# Altium integrated library ON Semi Schottky Diodes & Schottky Rectifiers.IntLib: 755 symbols (part 8 of 17)
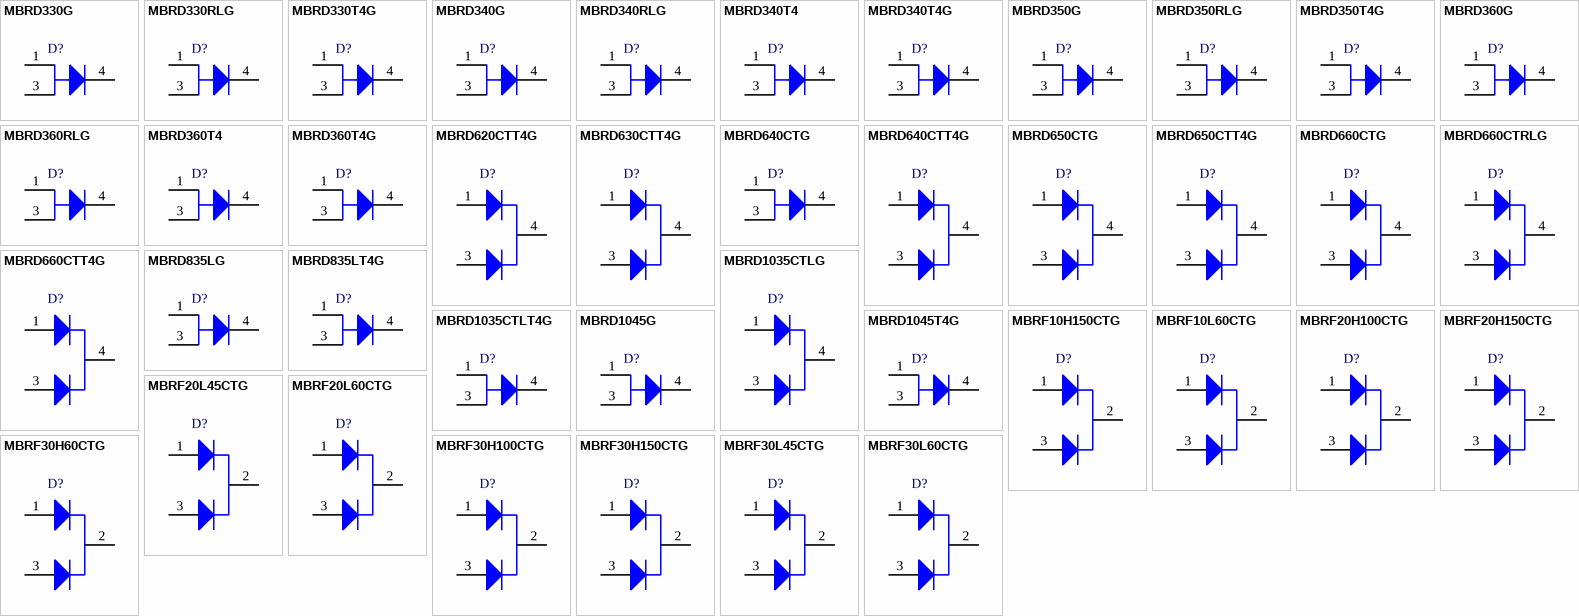
[diagram p26: symbols MBRD330G to MBRF30L60CTG]

## MBRD660CTRLG
designator D?
SWITCHMODE(TM) Power Rectifier, 3-Pin DPAK, Pb-Free, Tape and Reel; Manufacturer: On Semiconductor; PartNumber: MBRD660CTRLG; Configuration: Common Cathode; IFSM Max (A): 75; DatasheetVersion: Rev. 10; PackageVersion: Rev. E, 02/2014; PackageReference: DPAK-3-369C-01; PackageDescription: 3-Pin Flange Mount, Body 6.54 x 6.095 mm, Pitch 2.29 mm; Supplier 1: Digi-Key; Supplier Part Number 1: MBRD660CTRLGOSTR-ND; Supplier 2: Digi-Key; Supplier Part Number 2: MBRD660CTRLGOSCT-ND; Supplier 3: Digi-Key; Supplier Part Number 3: MBRD660CTRLGOSDKR-ND; Supplier 4: Farnell; Supplier Part Number 4: 2317439; Supplier 5: Newark; Supplier Part Number 5: 45J0785; Supplier 6: Mouser; Supplier Part Number 6: 863-MBRD660CTRLG; Packing: Tape and Reel; RoHS: TRUE; Mounting Technology: Surface Mount; ComponentLink1Description: Manufacturer URL; ComponentLink1URL: http://www.onsemi.com/; ComponentLink2Description: Datasheet; ComponentLink2URL: http://www.onsemi.cn/pub_link/Collateral/MBRD620CT-D.PDF; ComponentLink3Description: Package Specification; ComponentLink3URL: http://www.onsemi.cn/pub_link/Collateral/369C.PDF
footprint ONSC-DPAK-3-369C-01_V (DPAK, 3-Leads, Body 6.54x6.095mm, Pitch 2.29mm)
pins: 1 A1, 3 A2, 4 K

## MBRD660CTT4G
designator D?
SWITCHMODE(TM) Power Rectifier, 3-Pin DPAK, Pb-Free, Tape and Reel; Manufacturer: On Semiconductor; PartNumber: MBRD660CTT4G; Configuration: Common Cathode; IFSM Max (A): 75; DatasheetVersion: Rev. 10; PackageVersion: Rev. E, 02/2014; PackageReference: DPAK-3-369C-01; PackageDescription: 3-Pin Flange Mount, Body 6.54 x 6.095 mm, Pitch 2.29 mm; Supplier 1: Digi-Key; Supplier Part Number 1: MBRD660CTT4GOSTR-ND; Supplier 2: Digi-Key; Supplier Part Number 2: MBRD660CTT4GOSCT-ND; Supplier 3: Digi-Key; Supplier Part Number 3: MBRD660CTT4GOSDKR-ND; Supplier 4: Farnell; Supplier Part Number 4: 2317647; Supplier 5: Farnell; Supplier Part Number 5: 2317413; Supplier 6: Newark; Supplier Part Number 6: 85W2811; Supplier 7: Newark; Supplier Part Number 7: 88H4671; Supplier 8: Mouser; Supplier Part Number 8: 863-MBRD660CTT4G; Packing: Tape and Reel; RoHS: TRUE; Mounting Technology: Surface Mount; ComponentLink1Description: Manufacturer URL; ComponentLink1URL: http://www.onsemi.com/; ComponentLink2Description: Datasheet; ComponentLink2URL: http://www.onsemi.cn/pub_link/Collateral/MBRD620CT-D.PDF; ComponentLink3Description: Package Specification; ComponentLink3URL: http://www.onsemi.cn/pub_link/Collateral/369C.PDF
footprint ONSC-DPAK-3-369C-01_V (DPAK, 3-Leads, Body 6.54x6.095mm, Pitch 2.29mm)
pins: 1 A1, 3 A2, 4 K

## MBRD835LG
designator D?
SWITCHMODE(TM) Power Rectifier, 3-Pin DPAK, Pb-Free, Tube; Manufacturer: On Semiconductor; PartNumber: MBRD835LG; Configuration: Single; IFSM Max (A): 75; DatasheetVersion: Rev. 11; PackageVersion: Rev. E, 02/2014; PackageReference: DPAK-3-369C-01; PackageDescription: 3-Pin Flange Mount, Body 6.54 x 6.095 mm, Pitch 2.29 mm; Supplier 1: Digi-Key; Supplier Part Number 1: MBRD835LGOS-ND; Supplier 2: Farnell; Supplier Part Number 2: 9556249; Supplier 3: Newark; Supplier Part Number 3: 98H0591; Supplier 4: Mouser; Supplier Part Number 4: 863-MBRD835LG; Packing: Tube; RoHS: TRUE; Mounting Technology: Surface Mount; ComponentLink1Description: Manufacturer URL; ComponentLink1URL: http://www.onsemi.com/; ComponentLink2Description: Datasheet; ComponentLink2URL: http://www.onsemi.cn/pub_link/Collateral/MBRD835L-D.PDF; ComponentLink3Description: Package Specification; ComponentLink3URL: http://www.onsemi.cn/pub_link/Collateral/369C.PDF
footprint ONSC-DPAK-3-369C-01_V (DPAK, 3-Leads, Body 6.54x6.095mm, Pitch 2.29mm)
pins: 1 A, 3 A, 4 K

## MBRD835LT4G
designator D?
SWITCHMODE(TM) Power Rectifier, 3-Pin DPAK, Pb-Free, Tape and Reel; Manufacturer: On Semiconductor; PartNumber: MBRD835LT4G; Configuration: Single; IFSM Max (A): 75; DatasheetVersion: Rev. 11; PackageVersion: Rev. E, 02/2014; PackageReference: DPAK-3-369C-01; PackageDescription: 3-Pin Flange Mount, Body 6.54 x 6.095 mm, Pitch 2.29 mm; Supplier 1: Digi-Key; Supplier Part Number 1: MBRD835LT4GOSTR-ND; Supplier 2: Digi-Key; Supplier Part Number 2: MBRD835LT4GOSCT-ND; Supplier 3: Digi-Key; Supplier Part Number 3: MBRD835LT4GOSDKR-ND; Supplier 4: Farnell; Supplier Part Number 4: 1611349RL; Supplier 5: Farnell; Supplier Part Number 5: 1611349; Supplier 6: Farnell; Supplier Part Number 6: 2317646; Supplier 7: Newark; Supplier Part Number 7: 67R1309; Supplier 8: Newark; Supplier Part Number 8: 88H4672; Supplier 9: Mouser; Supplier Part Number 9: 863-MBRD835LT4G; Packing: Tape and Reel; RoHS: TRUE; Mounting Technology: Surface Mount; ComponentLink1Description: Manufacturer URL; ComponentLink1URL: http://www.onsemi.com/; ComponentLink2Description: Datasheet; ComponentLink2URL: http://www.onsemi.cn/pub_link/Collateral/MBRD835L-D.PDF; ComponentLink3Description: Package Specification; ComponentLink3URL: http://www.onsemi.cn/pub_link/Collateral/369C.PDF
footprint ONSC-DPAK-3-369C-01_V (DPAK, 3-Leads, Body 6.54x6.095mm, Pitch 2.29mm)
pins: 1 A, 3 A, 4 K

## MBRD1035CTLG
designator D?
SWITCHMODE(TM) Schottky Power Rectifier, 3-Pin DPAK, Pb-Free, Tube; Manufacturer: On Semiconductor; PartNumber: MBRD1035CTLG; Configuration: Common Cathode; IFSM Max (A): 50; DatasheetVersion: Rev. 9; PackageVersion: Rev. E, 02/2014; PackageReference: DPAK-3-369C-01; PackageDescription: 3-Pin Flange Mount, Body 6.54 x 6.095 mm, Pitch 2.29 mm; Supplier 1: Digi-Key; Supplier Part Number 1: MBRD1035CTLGOS-ND; Supplier 2: Farnell; Supplier Part Number 2: 9556974; Supplier 3: Newark; Supplier Part Number 3: 26K3681; Supplier 4: Mouser; Supplier Part Number 4: 863-MBRD1035CTLG; Packing: Tube; RoHS: TRUE; Mounting Technology: Surface Mount; ComponentLink1Description: Manufacturer URL; ComponentLink1URL: http://www.onsemi.com/; ComponentLink2Description: Datasheet; ComponentLink2URL: http://www.onsemi.cn/pub_link/Collateral/MBRD1035CTL-D.PDF; ComponentLink3Description: Package Specification; ComponentLink3URL: http://www.onsemi.cn/pub_link/Collateral/369C.PDF
footprint ONSC-DPAK-3-369C-01_V (DPAK, 3-Leads, Body 6.54x6.095mm, Pitch 2.29mm)
pins: 1 A1, 3 A2, 4 K

## MBRD1035CTLT4G
designator D?
SWITCHMODE(TM) Schottky Power Rectifier, 3-Pin DPAK, Pb-Free, Tape and Reel; Manufacturer: On Semiconductor; PartNumber: MBRD1035CTLT4G; Configuration: Common Cathode; IFSM Max (A): 50; DatasheetVersion: Rev. 9; PackageVersion: Rev. E, 02/2014; PackageReference: DPAK-3-369C-01; PackageDescription: 3-Pin Flange Mount, Body 6.54 x 6.095 mm, Pitch 2.29 mm; Supplier 1: Digi-Key; Supplier Part Number 1: MBRD1035CTLT4GOSTR-ND; Supplier 2: Digi-Key; Supplier Part Number 2: MBRD1035CTLT4GOSCT-ND; Supplier 3: Digi-Key; Supplier Part Number 3: MBRD1035CTLT4GOSDKR-ND; Supplier 4: Farnell; Supplier Part Number 4: 2317430; Supplier 5: Newark; Supplier Part Number 5: 88H4668; Supplier 6: Mouser; Supplier Part Number 6: 863-MBRD1035CTLT4G; Packing: Tape and Reel; RoHS: TRUE; Mounting Technology: Surface Mount; ComponentLink1Description: Manufacturer URL; ComponentLink1URL: http://www.onsemi.com/; ComponentLink2Description: Datasheet; ComponentLink2URL: http://www.onsemi.cn/pub_link/Collateral/MBRD1035CTL-D.PDF; ComponentLink3Description: Package Specification; ComponentLink3URL: http://www.onsemi.cn/pub_link/Collateral/369C.PDF
footprint ONSC-DPAK-3-369C-01_V (DPAK, 3-Leads, Body 6.54x6.095mm, Pitch 2.29mm)
pins: 1 A, 3 A, 4 K

## MBRD1045G
designator D?
SWITCHMODE(TM) Schottky Power Rectifier, 3-Pin DPAK, Pb-Free, Tube; Manufacturer: On Semiconductor; PartNumber: MBRD1045G; Note: 0; Configuration: Single; IFSM Max (A): 70; DatasheetVersion: Rev. 8; PackageVersion: Rev. E, 02/2014; PackageReference: DPAK-3-369C-01; PackageDescription: 3-Pin Flange Mount, Body 6.54 x 6.095 mm, Pitch 2.29 mm; Packing: Tube; RoHS: TRUE; Mounting Technology: Surface Mount; ComponentLink1Description: Manufacturer URL; ComponentLink1URL: http://www.onsemi.com/; ComponentLink2Description: Datasheet; ComponentLink2URL: http://www.onsemi.cn/pub_link/Collateral/MBRB1045-D.PDF; ComponentLink3Description: Package Specification; ComponentLink3URL: http://www.onsemi.cn/pub_link/Collateral/369C.PDF
footprint ONSC-DPAK-3-369C-01_V (DPAK, 3-Leads, Body 6.54x6.095mm, Pitch 2.29mm)
pins: 1 A, 3 A, 4 K

## MBRD1045T4G
designator D?
SWITCHMODE(TM) Schottky Power Rectifier, 3-Pin DPAK, Pb-Free, Tape and Reel; Manufacturer: On Semiconductor; PartNumber: MBRD1045T4G; Configuration: Single; IFSM Max (A): 70; DatasheetVersion: Rev. 8; PackageVersion: Rev. E, 02/2014; PackageReference: DPAK-3-369C-01; PackageDescription: 3-Pin Flange Mount, Body 6.54 x 6.095 mm, Pitch 2.29 mm; Supplier 1: Digi-Key; Supplier Part Number 1: MBRD1045T4GOSTR-ND; Supplier 2: Digi-Key; Supplier Part Number 2: MBRD1045T4GOSCT-ND; Supplier 3: Digi-Key; Supplier Part Number 3: MBRD1045T4GOSDKR-ND; Supplier 4: Farnell; Supplier Part Number 4: 1705524; Supplier 5: Farnell; Supplier Part Number 5: 2371523; Supplier 6: Newark; Supplier Part Number 6: 10N9415; Supplier 7: Newark; Supplier Part Number 7: 83K8564; Supplier 8: Mouser; Supplier Part Number 8: 863-MBRD1045T4G; Packing: Tape and Reel; RoHS: TRUE; Mounting Technology: Surface Mount; ComponentLink1Description: Manufacturer URL; ComponentLink1URL: http://www.onsemi.com/; ComponentLink2Description: Datasheet; ComponentLink2URL: http://www.onsemi.cn/pub_link/Collateral/MBRB1045-D.PDF; ComponentLink3Description: Package Specification; ComponentLink3URL: http://www.onsemi.cn/pub_link/Collateral/369C.PDF
footprint ONSC-DPAK-3-369C-01_V (DPAK, 3-Leads, Body 6.54x6.095mm, Pitch 2.29mm)
pins: 1 A, 3 A, 4 K

## MBRF10H150CTG
designator D?
SWITCHMODE(TM) Power Rectifier, 150 V, 10 A, 3-Pin TO-220FP, Pb-Free, Tube; Manufacturer: On Semiconductor; PartNumber: MBRF10H150CTG; Configuration: Common Cathode; IFSM Max (A): 150; DatasheetVersion: Rev. 1; PackageVersion: Rev. K, 02/2009; PackageReference: TO-220FP-3-221D-03; PackageDescription: 3-Pin Flange Mount, Vertical Straight Lead, Body 10.295 x 4.7 mm, Pitch 2.54 mm; Supplier 1: Digi-Key; Supplier Part Number 1: MBRF10H150CTGOS-ND; Supplier 2: Newark; Supplier Part Number 2: 75M4782; Supplier 3: Mouser; Supplier Part Number 3: 863-MBRF10H150CTG; Packing: Tube; RoHS: TRUE; Mounting Technology: Through Hole; ComponentLink1Description: Manufacturer URL; ComponentLink1URL: http://www.onsemi.com/; ComponentLink2Description: Datasheet; ComponentLink2URL: http://www.onsemi.cn/pub_link/Collateral/MBRF10H150C-D.PDF; ComponentLink3Description: Package Specification; ComponentLink3URL: http://www.onsemi.cn/pub_link/Collateral/221D-03.PDF
footprint ONSC-TO-220FP-3-221D-03 (FM, 3-Leads, Body 10.63x4.9mm, Pitch 2.54mm)
pins: 1 A1, 2 K, 3 A2

## MBRF10L60CTG
designator D?
SWITCHMODE(TM) Power Rectifier, 60 V, 10 A, 3-Pin TO-220FP, Pb-Free, Tube; Manufacturer: On Semiconductor; PartNumber: MBRF10L60CTG; Configuration: Common Cathode; IFSM Max (A): 200; DatasheetVersion: Rev. 0; PackageVersion: Rev. K, 02/2009; PackageReference: TO-220FP-3-221D-03; PackageDescription: 3-Pin Flange Mount, Vertical Straight Lead, Body 10.295 x 4.7 mm, Pitch 2.54 mm; Supplier 1: Digi-Key; Supplier Part Number 1: MBRF10L60CTG-ND; Supplier 2: Mouser; Supplier Part Number 2: 863-MBRF10L60CTG; Packing: Tube; RoHS: TRUE; Mounting Technology: Through Hole; ComponentLink1Description: Manufacturer URL; ComponentLink1URL: http://www.onsemi.com/; ComponentLink2Description: Datasheet; ComponentLink2URL: http://www.onsemi.cn/pub_link/Collateral/MBR10L60CT-D.PDF; ComponentLink3Description: Package Specification; ComponentLink3URL: http://www.onsemi.cn/pub_link/Collateral/221D-03.PDF
footprint ONSC-TO-220FP-3-221D-03 (FM, 3-Leads, Body 10.63x4.9mm, Pitch 2.54mm)
pins: 1 A1, 2 K, 3 A2

## MBRF20H100CTG
designator D?
SWITCHMODE(TM) Power Rectifier, 100 V, 20 A, 3-Pin TO-220, Pb-Free, Tube; Manufacturer: On Semiconductor; PartNumber: MBRF20H100CTG; Configuration: Common Cathode; IFSM Max (A): 250; DatasheetVersion: Rev. 11; PackageVersion: Rev. K, 02/2009; PackageReference: TO-220FP-3-221D-03; PackageDescription: 3-Pin Flange Mount, Vertical Straight Lead, Body 10.295 x 4.7 mm, Pitch 2.54 mm; Supplier 1: Digi-Key; Supplier Part Number 1: MBRF20H100CTG-ND; Supplier 2: Mouser; Supplier Part Number 2: 863-MBRF20H100CTG; Packing: Tube; RoHS: TRUE; Mounting Technology: Through Hole; ComponentLink1Description: Manufacturer URL; ComponentLink1URL: http://www.onsemi.com/; ComponentLink2Description: Datasheet; ComponentLink2URL: http://www.onsemi.cn/pub_link/Collateral/MBR20H100CT-D.PDF; ComponentLink3Description: Package Specification; ComponentLink3URL: http://www.onsemi.cn/pub_link/Collateral/221D-03.PDF
footprint ONSC-TO-220FP-3-221D-03 (FM, 3-Leads, Body 10.63x4.9mm, Pitch 2.54mm)
pins: 1 A1, 2 K, 3 A2

## MBRF20H150CTG
designator D?
SWITCHMODE(TM) Power Rectifier, 150 V, 20 A, 3-Pin TO-220FP, Pb-Free, Tube; Manufacturer: On Semiconductor; PartNumber: MBRF20H150CTG; Configuration: Common Cathode; IFSM Max (A): 180; DatasheetVersion: Rev. 2; PackageVersion: Rev. K, 02/2009; PackageReference: TO-220FP-3-221D-03; PackageDescription: 3-Pin Flange Mount, Vertical Straight Lead, Body 10.295 x 4.7 mm, Pitch 2.54 mm; Supplier 1: Digi-Key; Supplier Part Number 1: MBRF20H150CTGOS-ND; Supplier 2: Newark; Supplier Part Number 2: 75M4783; Supplier 3: Mouser; Supplier Part Number 3: 863-MBRF20H150CTG; Packing: Tube; RoHS: TRUE; Mounting Technology: Through Hole; ComponentLink1Description: Manufacturer URL; ComponentLink1URL: http://www.onsemi.com/; ComponentLink2Description: Datasheet; ComponentLink2URL: http://www.onsemi.cn/pub_link/Collateral/MBRF20H150C-D.PDF; ComponentLink3Description: Package Specification; ComponentLink3URL: http://www.onsemi.cn/pub_link/Collateral/221D-03.PDF
footprint ONSC-TO-220FP-3-221D-03 (FM, 3-Leads, Body 10.63x4.9mm, Pitch 2.54mm)
pins: 1 A1, 2 K, 3 A2

## MBRF20L45CTG
designator D?
SWITCHMODE(TM) Power Rectifier, 45 V, 20 A, 3-Pin TO-220, Pb-Free, Tube; Manufacturer: On Semiconductor; PartNumber: MBRF20L45CTG; Configuration: Common Cathode; IFSM Max (A): 180; DatasheetVersion: Rev. 2; PackageVersion: Rev. K, 02/2009; PackageReference: TO-220FP-3-221D-03; PackageDescription: 3-Pin Flange Mount, Vertical Straight Lead, Body 10.295 x 4.7 mm, Pitch 2.54 mm; Supplier 1: Digi-Key; Supplier Part Number 1: MBRF20L45CTG-ND; Supplier 2: Mouser; Supplier Part Number 2: 863-MBRF20L45CTG; Packing: Tube; RoHS: TRUE; Mounting Technology: Through Hole; ComponentLink1Description: Manufacturer URL; ComponentLink1URL: http://www.onsemi.com/; ComponentLink2Description: Datasheet; ComponentLink2URL: http://www.onsemi.cn/pub_link/Collateral/MBR20L45CT-D.PDF; ComponentLink3Description: Package Specification; ComponentLink3URL: http://www.onsemi.cn/pub_link/Collateral/221D-03.PDF
footprint ONSC-TO-220FP-3-221D-03 (FM, 3-Leads, Body 10.63x4.9mm, Pitch 2.54mm)
pins: 1 A1, 2 K, 3 A2

## MBRF20L60CTG
designator D?
SWITCHMODE(TM) Power Rectifier, 60 V, 20 A, 3-Pin TO-220FP, Pb-Free, Tube; Manufacturer: On Semiconductor; PartNumber: MBRF20L60CTG; Configuration: Common Cathode; IFSM Max (A): 240; DatasheetVersion: Rev. 1; PackageVersion: Rev. K, 02/2009; PackageReference: TO-220FP-3-221D-03; PackageDescription: 3-Pin Flange Mount, Vertical Straight Lead, Body 10.295 x 4.7 mm, Pitch 2.54 mm; Supplier 1: Digi-Key; Supplier Part Number 1: MBRF20L60CTG-ND; Supplier 2: Mouser; Supplier Part Number 2: 863-MBRF20L60CTG; Packing: Tube; RoHS: TRUE; Mounting Technology: Through Hole; ComponentLink1Description: Manufacturer URL; ComponentLink1URL: http://www.onsemi.com/; ComponentLink2Description: Datasheet; ComponentLink2URL: http://www.onsemi.cn/pub_link/Collateral/MBR20L60CT-D.PDF; ComponentLink3Description: Package Specification; ComponentLink3URL: http://www.onsemi.cn/pub_link/Collateral/221D-03.PDF
footprint ONSC-TO-220FP-3-221D-03 (FM, 3-Leads, Body 10.63x4.9mm, Pitch 2.54mm)
pins: 1 A1, 2 K, 3 A2

## MBRF30H60CTG
designator D?
SWITCHMODE(TM) Power Rectifier, 60 V, 30 A, 3-Pin TO-220FP, Pb-Free, Tube; Manufacturer: On Semiconductor; PartNumber: MBRF30H60CTG; Configuration: Common Cathode; IFSM Max (A): 260; DatasheetVersion: Rev. 10; PackageVersion: Rev. K, 02/2009; PackageReference: TO-220FP-3-221D-03; PackageDescription: 3-Pin Flange Mount, Vertical Straight Lead, Body 10.295 x 4.7 mm, Pitch 2.54 mm; Supplier 1: Digi-Key; Supplier Part Number 1: MBRF30H60CTGOS-ND; Supplier 2: Newark; Supplier Part Number 2: 34M7322; Supplier 3: Mouser; Supplier Part Number 3: 863-MBRF30H60CTG; Packing: Tube; RoHS: TRUE; Mounting Technology: Through Hole; ComponentLink1Description: Manufacturer URL; ComponentLink1URL: http://www.onsemi.com/; ComponentLink2Description: Datasheet; ComponentLink2URL: http://www.onsemi.cn/pub_link/Collateral/MBRB30H60CT-D.PDF; ComponentLink3Description: Package Specification; ComponentLink3URL: http://www.onsemi.cn/pub_link/Collateral/221D-03.PDF
footprint ONSC-TO-220FP-3-221D-03 (FM, 3-Leads, Body 10.63x4.9mm, Pitch 2.54mm)
pins: 1 A1, 2 K, 3 A2

## MBRF30H100CTG
designator D?
SWITCHMODE(TM) Power Rectifier, 100 V, 30 A, 3-Pin TO-220FP, Pb-Free, Tube; Manufacturer: On Semiconductor; PartNumber: MBRF30H100CTG; Configuration: Common Cathode; IFSM Max (A): 250; DatasheetVersion: Rev. 4; PackageVersion: Rev. K, 02/2009; PackageReference: TO-220FP-3-221D-03; PackageDescription: 3-Pin Flange Mount, Vertical Straight Lead, Body 10.295 x 4.7 mm, Pitch 2.54 mm; Supplier 1: Digi-Key; Supplier Part Number 1: MBRF30H100CTGOS-ND; Supplier 2: Newark; Supplier Part Number 2: 01P0130; Supplier 3: Mouser; Supplier Part Number 3: 863-MBRF30H100CTG; Packing: Tube; RoHS: TRUE; Mounting Technology: Through Hole; ComponentLink1Description: Manufacturer URL; ComponentLink1URL: http://www.onsemi.com/; ComponentLink2Description: Datasheet; ComponentLink2URL: http://www.onsemi.cn/pub_link/Collateral/MBR30H100CT-D.PDF; ComponentLink3Description: Package Specification; ComponentLink3URL: http://www.onsemi.cn/pub_link/Collateral/221D-03.PDF
footprint ONSC-TO-220FP-3-221D-03 (FM, 3-Leads, Body 10.63x4.9mm, Pitch 2.54mm)
pins: 1 A1, 2 K, 3 A2

## MBRF30H150CTG
designator D?
SWITCHMODE(TM) Power Rectifier, 150 V, 30 A, 3-Pin TO-220FP, Pb-Free, Tube; Manufacturer: On Semiconductor; PartNumber: MBRF30H150CTG; Configuration: Common Cathode; IFSM Max (A): 200; DatasheetVersion: Rev. 1; PackageVersion: Rev. K, 02/2009; PackageReference: TO-220FP-3-221D-03; PackageDescription: 3-Pin Flange Mount, Vertical Straight Lead, Body 10.295 x 4.7 mm, Pitch 2.54 mm; Supplier 1: Digi-Key; Supplier Part Number 1: MBRF30H150CTG-ND; Supplier 2: Newark; Supplier Part Number 2: 75M4784; Supplier 3: Mouser; Supplier Part Number 3: 863-MBRF30H150CTG; Packing: Tube; RoHS: TRUE; Mounting Technology: Through Hole; ComponentLink1Description: Manufacturer URL; ComponentLink1URL: http://www.onsemi.com/; ComponentLink2Description: Datasheet; ComponentLink2URL: http://www.onsemi.cn/pub_link/Collateral/MBRF30H150C-D.PDF; ComponentLink3Description: Package Specification; ComponentLink3URL: http://www.onsemi.cn/pub_link/Collateral/221D-03.PDF
footprint ONSC-TO-220FP-3-221D-03 (FM, 3-Leads, Body 10.63x4.9mm, Pitch 2.54mm)
pins: 1 A1, 2 K, 3 A2

## MBRF30L45CTG
designator D?
SWITCHMODE(TM) Power Rectifier, 45 V, 30 A, 3-Pin TO-220, Pb-Free, Tube; Manufacturer: On Semiconductor; PartNumber: MBRF30L45CTG; Configuration: Common Cathode; IFSM Max (A): 190; DatasheetVersion: Rev. 2; PackageVersion: Rev. K, 02/2009; PackageReference: TO-220FP-3-221D-03; PackageDescription: 3-Pin Flange Mount, Vertical Straight Lead, Body 10.295 x 4.7 mm, Pitch 2.54 mm; Supplier 1: Digi-Key; Supplier Part Number 1: MBRF30L45CTG-ND; Supplier 2: Mouser; Supplier Part Number 2: 863-MBRF30L45CTG; Packing: Tube; RoHS: TRUE; Mounting Technology: Through Hole; ComponentLink1Description: Manufacturer URL; ComponentLink1URL: http://www.onsemi.com/; ComponentLink2Description: Datasheet; ComponentLink2URL: http://www.onsemi.cn/pub_link/Collateral/MBR30L45CT-D.PDF; ComponentLink3Description: Package Specification; ComponentLink3URL: http://www.onsemi.cn/pub_link/Collateral/221D-03.PDF
footprint ONSC-TO-220FP-3-221D-03 (FM, 3-Leads, Body 10.63x4.9mm, Pitch 2.54mm)
pins: 1 A1, 2 K, 3 A2

## MBRF30L60CTG
designator D?
SWITCHMODE(TM) Power Rectifier, 60 V, 30 A, 3-Pin TO-220FP, Pb-Free, Tube; Manufacturer: On Semiconductor; PartNumber: MBRF30L60CTG; Configuration: Common Cathode; IFSM Max (A): 240; DatasheetVersion: Rev. 0; PackageVersion: Rev. K, 02/2009; PackageReference: TO-220FP-3-221D-03; PackageDescription: 3-Pin Flange Mount, Vertical Straight Lead, Body 10.295 x 4.7 mm, Pitch 2.54 mm; Supplier 1: Digi-Key; Supplier Part Number 1: MBRF30L60CTG-ND; Supplier 2: Newark; Supplier Part Number 2: 46P8071; Supplier 3: Mouser; Supplier Part Number 3: 863-MBRF30L60CTG; Packing: Tube; RoHS: TRUE; Mounting Technology: Through Hole; ComponentLink1Description: Manufacturer URL; ComponentLink1URL: http://www.onsemi.com/; ComponentLink2Description: Datasheet; ComponentLink2URL: http://www.onsemi.cn/pub_link/Collateral/MBR30L60CT-D.PDF; ComponentLink3Description: Package Specification; ComponentLink3URL: http://www.onsemi.cn/pub_link/Collateral/221D-03.PDF
footprint ONSC-TO-220FP-3-221D-03 (FM, 3-Leads, Body 10.63x4.9mm, Pitch 2.54mm)
pins: 1 A1, 2 K, 3 A2

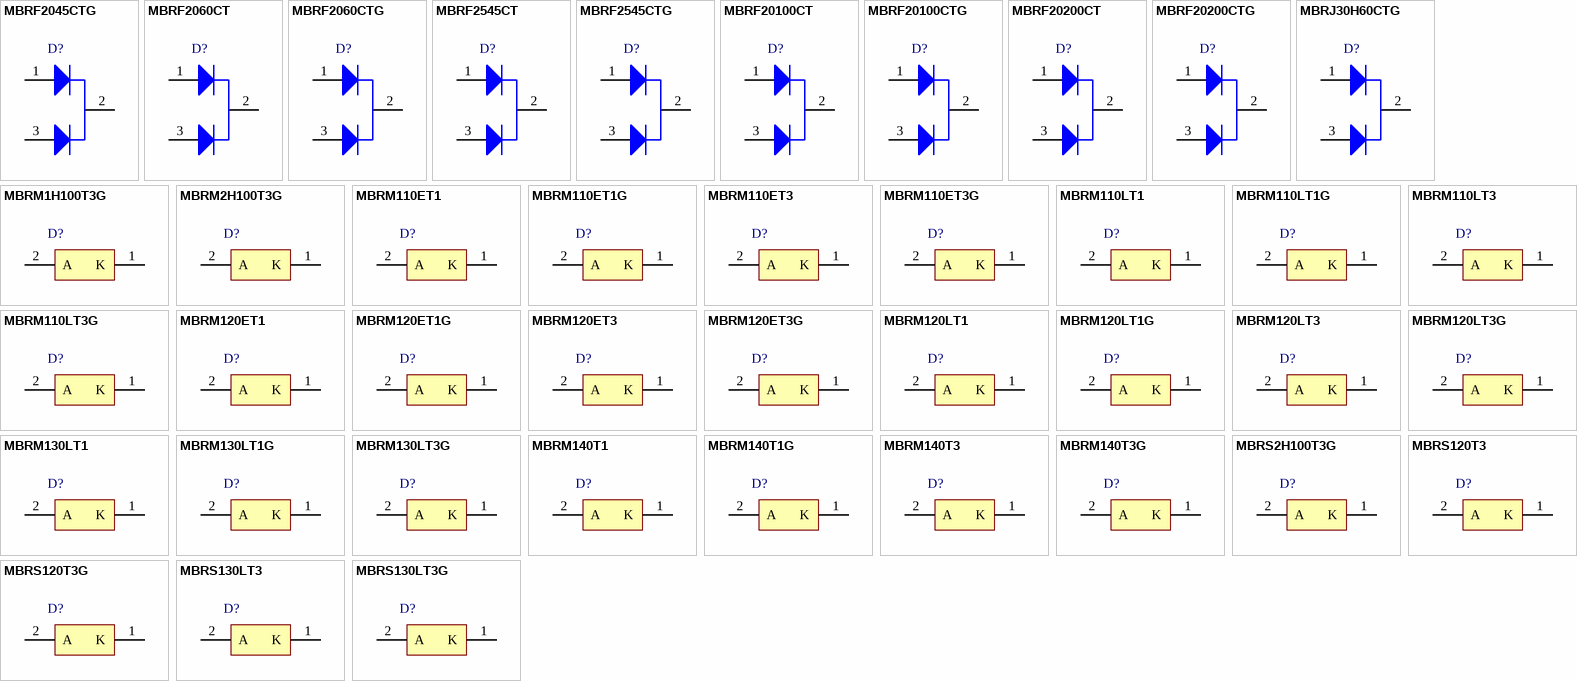
[diagram p9: symbols MBRF2045CTG to MBRS130LT3G]

## MBRF2045CTG
designator D?
SWITCHMODE(TM) Power Rectifier, 3-Pin TO-220FP, Pb-Free, Tube; Manufacturer: On Semiconductor; PartNumber: MBRF2045CTG; IFSM Max (A): 150; DatasheetVersion: Rev. 10; PackageVersion: Rev. K, 02/2009; PackageReference: TO-220FP-3-221D-03; PackageDescription: 3-Pin Flange Mount, Vertical Straight Lead, Body 10.295 x 4.7 mm, Pitch 2.54 mm; Supplier 1: Digi-Key; Supplier Part Number 1: MBRF2045CTGOS-ND; Supplier 2: Newark; Supplier Part Number 2: 01P4990; Supplier 3: Mouser; Supplier Part Number 3: 863-MBRF2045CTG; Packing: Tube; RoHS: TRUE; Mounting Technology: Through Hole; ComponentLink1Description: Manufacturer URL; ComponentLink1URL: http://www.onsemi.com/; ComponentLink2Description: Datasheet; ComponentLink2URL: http://www.onsemi.cn/pub_link/Collateral/MBR2045CT-D.PDF; ComponentLink3Description: Package Specification; ComponentLink3URL: http://www.onsemi.cn/pub_link/Collateral/221D-03.PDF
footprint ONSC-TO-220FP-3-221D-03 (FM, 3-Leads, Body 10.63x4.9mm, Pitch 2.54mm)
pins: 1 A1, 2 K, 3 A2

## MBRF2060CT
designator D?
SWITCHMODE(TM) Schottky Power Rectifier, 3-Pin TO-220FP, Tube; Manufacturer: On Semiconductor; PartNumber: MBRF2060CT; Configuration: Common Cathode; IFSM Max (A): 150; DatasheetVersion: Rev. 8; PackageVersion: Rev. K, 02/2009; PackageReference: TO-220FP-3-221D-03; PackageDescription: 3-Pin Flange Mount, Vertical Straight Lead, Body 10.295 x 4.7 mm, Pitch 2.54 mm; Supplier 1: Digi-Key; Supplier Part Number 1: MBRF2060CT-ND; Packing: Tube; RoHS: FALSE; Mounting Technology: Through Hole; ComponentLink1Description: Manufacturer URL; ComponentLink1URL: http://www.onsemi.com/; ComponentLink2Description: Datasheet; ComponentLink2URL: http://www.onsemi.cn/pub_link/Collateral/MBRF2060CT-D.PDF; ComponentLink3Description: Package Specification; ComponentLink3URL: http://www.onsemi.cn/pub_link/Collateral/221D-03.PDF
footprint ONSC-TO-220FP-3-221D-03 (FM, 3-Leads, Body 10.63x4.9mm, Pitch 2.54mm)
pins: 1 A1, 2 K, 3 A2

## MBRF2060CTG
designator D?
SWITCHMODE(TM) Schottky Power Rectifier, 3-Pin TO-220FP, Pb-Free, Tube; Manufacturer: On Semiconductor; PartNumber: MBRF2060CTG; Configuration: Common Cathode; IFSM Max (A): 150; DatasheetVersion: Rev. 8; PackageVersion: Rev. K, 02/2009; PackageReference: TO-220FP-3-221D-03; PackageDescription: 3-Pin Flange Mount, Vertical Straight Lead, Body 10.295 x 4.7 mm, Pitch 2.54 mm; Supplier 1: Digi-Key; Supplier Part Number 1: MBRF2060CTG-ND; Supplier 2: Newark; Supplier Part Number 2: 45J0786; Supplier 3: Mouser; Supplier Part Number 3: 863-MBRF2060CTG; Packing: Tube; RoHS: TRUE; Mounting Technology: Through Hole; ComponentLink1Description: Manufacturer URL; ComponentLink1URL: http://www.onsemi.com/; ComponentLink2Description: Datasheet; ComponentLink2URL: http://www.onsemi.cn/pub_link/Collateral/MBRF2060CT-D.PDF; ComponentLink3Description: Package Specification; ComponentLink3URL: http://www.onsemi.cn/pub_link/Collateral/221D-03.PDF
footprint ONSC-TO-220FP-3-221D-03 (FM, 3-Leads, Body 10.63x4.9mm, Pitch 2.54mm)
pins: 1 A1, 2 K, 3 A2

## MBRF2545CT
designator D?
SWITCHMODE(TM) Schottky Power Rectifier, 3-Pin TO-220FP, Tube; Manufacturer: On Semiconductor; PartNumber: MBRF2545CT; Configuration: Common Cathode; IFSM Max (A): 150; DatasheetVersion: Rev. 8; PackageVersion: Rev. K, 02/2009; PackageReference: TO-220FP-3-221D-03; PackageDescription: 3-Pin Flange Mount, Vertical Straight Lead, Body 10.295 x 4.7 mm, Pitch 2.54 mm; Supplier 1: Digi-Key; Supplier Part Number 1: MBRF2545CTOS-ND; Packing: Tube; RoHS: FALSE; Mounting Technology: Through Hole; ComponentLink1Description: Manufacturer URL; ComponentLink1URL: http://www.onsemi.com/; ComponentLink2Description: Datasheet; ComponentLink2URL: http://www.onsemi.cn/pub_link/Collateral/MBRF2545CT-D.PDF; ComponentLink3Description: Package Specification; ComponentLink3URL: http://www.onsemi.cn/pub_link/Collateral/221D-03.PDF
footprint ONSC-TO-220FP-3-221D-03 (FM, 3-Leads, Body 10.63x4.9mm, Pitch 2.54mm)
pins: 1 A1, 2 K, 3 A2

## MBRF2545CTG
designator D?
SWITCHMODE(TM) Schottky Power Rectifier, 3-Pin TO-220FP, Pb-Free, Tube; Manufacturer: On Semiconductor; PartNumber: MBRF2545CTG; Configuration: Common Cathode; IFSM Max (A): 150; DatasheetVersion: Rev. 8; PackageVersion: Rev. K, 02/2009; PackageReference: TO-220FP-3-221D-03; PackageDescription: 3-Pin Flange Mount, Vertical Straight Lead, Body 10.295 x 4.7 mm, Pitch 2.54 mm; Supplier 1: Digi-Key; Supplier Part Number 1: MBRF2545CTGOS-ND; Supplier 2: Newark; Supplier Part Number 2: 88H4673; Supplier 3: Mouser; Supplier Part Number 3: 863-MBRF2545CTG; Packing: Tube; RoHS: TRUE; Mounting Technology: Through Hole; ComponentLink1Description: Manufacturer URL; ComponentLink1URL: http://www.onsemi.com/; ComponentLink2Description: Datasheet; ComponentLink2URL: http://www.onsemi.cn/pub_link/Collateral/MBRF2545CT-D.PDF; ComponentLink3Description: Package Specification; ComponentLink3URL: http://www.onsemi.cn/pub_link/Collateral/221D-03.PDF
footprint ONSC-TO-220FP-3-221D-03 (FM, 3-Leads, Body 10.63x4.9mm, Pitch 2.54mm)
pins: 1 A1, 2 K, 3 A2

## MBRF20100CT
designator D?
SWITCHMODE(TM) Schottky Power Rectifier, 3-Pin TO-220FP, Tube; Manufacturer: On Semiconductor; PartNumber: MBRF20100CT; Configuration: Common Cathode; IFSM Max (A): 150; DatasheetVersion: Rev. 9; PackageVersion: Rev. K, 02/2009; PackageReference: TO-220FP-3-221D-03; PackageDescription: 3-Pin Flange Mount, Vertical Straight Lead, Body 10.295 x 4.7 mm, Pitch 2.54 mm; Supplier 1: Digi-Key; Supplier Part Number 1: MBRF20100CTOS-ND; Packing: Tube; RoHS: FALSE; Mounting Technology: Through Hole; ComponentLink1Description: Manufacturer URL; ComponentLink1URL: http://www.onsemi.com/; ComponentLink2Description: Datasheet; ComponentLink2URL: http://www.onsemi.cn/pub_link/Collateral/MBRF20100CT-D.PDF; ComponentLink3Description: Package Specification; ComponentLink3URL: http://www.onsemi.cn/pub_link/Collateral/221D-03.PDF
footprint ONSC-TO-220FP-3-221D-03 (FM, 3-Leads, Body 10.63x4.9mm, Pitch 2.54mm)
pins: 1 A1, 2 K, 3 A2

## MBRF20100CTG
designator D?
SWITCHMODE(TM) Schottky Power Rectifier, 3-Pin TO-220FP, Pb-Free, Tube; Manufacturer: On Semiconductor; PartNumber: MBRF20100CTG; Configuration: Common Cathode; IFSM Max (A): 150; DatasheetVersion: Rev. 9; PackageVersion: Rev. K, 02/2009; PackageReference: TO-220FP-3-221D-03; PackageDescription: 3-Pin Flange Mount, Vertical Straight Lead, Body 10.295 x 4.7 mm, Pitch 2.54 mm; Supplier 1: Digi-Key; Supplier Part Number 1: MBRF20100CTGOS-ND; Supplier 2: Newark; Supplier Part Number 2: 26K3686; Supplier 3: Mouser; Supplier Part Number 3: 863-MBRF20100CTG; Packing: Tube; RoHS: TRUE; Mounting Technology: Through Hole; ComponentLink1Description: Manufacturer URL; ComponentLink1URL: http://www.onsemi.com/; ComponentLink2Description: Datasheet; ComponentLink2URL: http://www.onsemi.cn/pub_link/Collateral/MBRF20100CT-D.PDF; ComponentLink3Description: Package Specification; ComponentLink3URL: http://www.onsemi.cn/pub_link/Collateral/221D-03.PDF
footprint ONSC-TO-220FP-3-221D-03 (FM, 3-Leads, Body 10.63x4.9mm, Pitch 2.54mm)
pins: 1 A1, 2 K, 3 A2

## MBRF20200CT
designator D?
SWITCHMODE(TM) Schottky Power Rectifier, 3-Pin TO-220FP, Tube; Manufacturer: On Semiconductor; PartNumber: MBRF20200CT; Configuration: Common Cathode; IFSM Max (A): 150; DatasheetVersion: Rev. 7; PackageVersion: Rev. K, 02/2009; PackageReference: TO-220FP-3-221D-03; PackageDescription: 3-Pin Flange Mount, Vertical Straight Lead, Body 10.295 x 4.7 mm, Pitch 2.54 mm; Supplier 1: Digi-Key; Supplier Part Number 1: MBRF20200CTOS-ND; Packing: Tube; RoHS: FALSE; Mounting Technology: Through Hole; ComponentLink1Description: Manufacturer URL; ComponentLink1URL: http://www.onsemi.com/; ComponentLink2Description: Datasheet; ComponentLink2URL: http://www.onsemi.cn/pub_link/Collateral/MBRF20200CT-D.PDF; ComponentLink3Description: Package Specification; ComponentLink3URL: http://www.onsemi.cn/pub_link/Collateral/221D-03.PDF
footprint ONSC-TO-220FP-3-221D-03 (FM, 3-Leads, Body 10.63x4.9mm, Pitch 2.54mm)
pins: 1 A1, 2 K, 3 A2

## MBRF20200CTG
designator D?
SWITCHMODE(TM) Schottky Power Rectifier, 3-Pin TO-220FP, Pb-Free, Tube; Manufacturer: On Semiconductor; PartNumber: MBRF20200CTG; Configuration: Common Cathode; IFSM Max (A): 150; DatasheetVersion: Rev. 7; PackageVersion: Rev. K, 02/2009; PackageReference: TO-220FP-3-221D-03; PackageDescription: 3-Pin Flange Mount, Vertical Straight Lead, Body 10.295 x 4.7 mm, Pitch 2.54 mm; Supplier 1: Digi-Key; Supplier Part Number 1: MBRF20200CTGOS-ND; Supplier 2: Farnell; Supplier Part Number 2: 1354336; Supplier 3: Newark; Supplier Part Number 3: 26K3687; Supplier 4: Mouser; Supplier Part Number 4: 863-MBRF20200CTG; Packing: Tube; RoHS: TRUE; Mounting Technology: Through Hole; ComponentLink1Description: Manufacturer URL; ComponentLink1URL: http://www.onsemi.com/; ComponentLink2Description: Datasheet; ComponentLink2URL: http://www.onsemi.cn/pub_link/Collateral/MBRF20200CT-D.PDF; ComponentLink3Description: Package Specification; ComponentLink3URL: http://www.onsemi.cn/pub_link/Collateral/221D-03.PDF
footprint ONSC-TO-220FP-3-221D-03 (FM, 3-Leads, Body 10.63x4.9mm, Pitch 2.54mm)
pins: 1 A1, 2 K, 3 A2

## MBRJ30H60CTG
designator D?
SWITCHMODE(TM) Power Rectifier, 60 V, 30 A, 3-Pin TO-220FP, Pb-Free, Tube; Manufacturer: On Semiconductor; PartNumber: MBRJ30H60CTG; Note: 0; Configuration: Common Cathode; IFSM Max (A): 260; DatasheetVersion: Rev. 10; PackageVersion: Rev. K, 02/2009; PackageReference: TO-220FP-3-221D-03; PackageDescription: 3-Pin Flange Mount, Vertical Straight Lead, Body 10.295 x 4.7 mm, Pitch 2.54 mm; Packing: Tube; RoHS: TRUE; Mounting Technology: Through Hole; ComponentLink1Description: Manufacturer URL; ComponentLink1URL: http://www.onsemi.com/; ComponentLink2Description: Datasheet; ComponentLink2URL: http://www.onsemi.cn/pub_link/Collateral/MBRB30H60CT-D.PDF; ComponentLink3Description: Package Specification; ComponentLink3URL: http://www.onsemi.cn/pub_link/Collateral/221D-03.PDF
footprint ONSC-TO-220FP-3-221D-03 (FM, 3-Leads, Body 10.63x4.9mm, Pitch 2.54mm)
pins: 1 A1, 2 K, 3 A2

## MBRM1H100T3G
designator D?
Schottky Power Rectifier, 2-Pin Powermite, Pb-Free, Tape and Reel; Manufacturer: On Semiconductor; PartNumber: MBRM1H100T3G; Configuration: Single; IFSM Max (A): 50; DatasheetVersion: Rev. 0; PackageVersion: Rev. F, 05/2013; PackageReference: POWERMITE-2-457-04; PackageDescription: 2-Pin POWERMITE, Body 1.965 x 1.9 mm; Supplier 1: Digi-Key; Supplier Part Number 1: MBRM1H100T3G-ND; Supplier 2: Newark; Supplier Part Number 2: 15R4282; Supplier 3: Mouser; Supplier Part Number 3: 863-MBRM1H100T3G; Packing: Tape and Reel; RoHS: TRUE; Mounting Technology: Surface Mount; ComponentLink1Description: Manufacturer URL; ComponentLink1URL: http://www.onsemi.com/; ComponentLink2Description: Datasheet; ComponentLink2URL: http://www.onsemi.cn/pub_link/Collateral/MBRM1H100-D.PDF; ComponentLink3Description: Package Specification; ComponentLink3URL: http://www.onsemi.com/pub_link/Collateral/457-04.PDF
footprint ONSC-POWERMITE-2-457-04_D_V (POWERMITE, 2-Leads, Body 1.965x1.9mm)
pins: 1 K, 2 A

## MBRM2H100T3G
designator D?
Schottky Power Rectifier, 2-Pin Powermite, Pb-Free, Tape and Reel; Manufacturer: On Semiconductor; PartNumber: MBRM2H100T3G; Configuration: Single; IFSM Max (A): 50; DatasheetVersion: Rev. 1; PackageVersion: Rev. F, 05/2013; PackageReference: POWERMITE-2-457-04; PackageDescription: 2-Pin POWERMITE, Body 1.965 x 1.9 mm; Supplier 1: Digi-Key; Supplier Part Number 1: MBRM2H100T3G-ND; Supplier 2: Newark; Supplier Part Number 2: 15R4283; Supplier 3: Mouser; Supplier Part Number 3: 863-MBRM2H100T3G; Packing: Tape and Reel; RoHS: TRUE; Mounting Technology: Surface Mount; ComponentLink1Description: Manufacturer URL; ComponentLink1URL: http://www.onsemi.com/; ComponentLink2Description: Datasheet; ComponentLink2URL: http://www.onsemi.cn/pub_link/Collateral/MBRM2H100-D.PDF; ComponentLink3Description: Package Specification; ComponentLink3URL: http://www.onsemi.com/pub_link/Collateral/457-04.PDF
footprint ONSC-POWERMITE-2-457-04_D_V (POWERMITE, 2-Leads, Body 1.965x1.9mm)
pins: 1 K, 2 A

## MBRM110ET1
designator D?
Schottky Power Rectifier, 2-Pin Powermite, Tape and Reel; Manufacturer: On Semiconductor; PartNumber: MBRM110ET1; Configuration: Single; IFSM Max (A): 50; DatasheetVersion: Rev. 3; PackageVersion: Rev. F, 05/2013; PackageReference: POWERMITE-2-457-04; PackageDescription: 2-Pin POWERMITE, Body 1.965 x 1.9 mm; Supplier 1: Digi-Key; Supplier Part Number 1: MBRM110ET1OSTR-ND; Supplier 2: Digi-Key; Supplier Part Number 2: MBRM110ET1OSCT-ND; Supplier 3: Digi-Key; Supplier Part Number 3: MBRM110ET1OSDKR-ND; Packing: Tape and Reel; RoHS: FALSE; Mounting Technology: Surface Mount; ComponentLink1Description: Manufacturer URL; ComponentLink1URL: http://www.onsemi.com/; ComponentLink2Description: Datasheet; ComponentLink2URL: http://www.onsemi.cn/pub_link/Collateral/MBRM110E-D.PDF; ComponentLink3Description: Package Specification; ComponentLink3URL: http://www.onsemi.com/pub_link/Collateral/457-04.PDF
footprint ONSC-POWERMITE-2-457-04_D_V (POWERMITE, 2-Leads, Body 1.965x1.9mm)
pins: 1 K, 2 A

## MBRM110ET1G
designator D?
Schottky Power Rectifier, 2-Pin Powermite, Pb-Free, Tape and Reel; Manufacturer: On Semiconductor; PartNumber: MBRM110ET1G; Configuration: Single; IFSM Max (A): 50; DatasheetVersion: Rev. 3; PackageVersion: Rev. F, 05/2013; PackageReference: POWERMITE-2-457-04; PackageDescription: 2-Pin POWERMITE, Body 1.965 x 1.9 mm; Supplier 1: Digi-Key; Supplier Part Number 1: MBRM110ET1GOSTR-ND; Supplier 2: Digi-Key; Supplier Part Number 2: MBRM110ET1GOSCT-ND; Supplier 3: Digi-Key; Supplier Part Number 3: MBRM110ET1GOSDKR-ND; Supplier 4: Farnell; Supplier Part Number 4: 2369429; Supplier 5: Newark; Supplier Part Number 5: 10N9417; Supplier 6: Mouser; Supplier Part Number 6: 863-MBRM110ET1G; Packing: Tape and Reel; RoHS: TRUE; Mounting Technology: Surface Mount; ComponentLink1Description: Manufacturer URL; ComponentLink1URL: http://www.onsemi.com/; ComponentLink2Description: Datasheet; ComponentLink2URL: http://www.onsemi.cn/pub_link/Collateral/MBRM110E-D.PDF; ComponentLink3Description: Package Specification; ComponentLink3URL: http://www.onsemi.com/pub_link/Collateral/457-04.PDF
footprint ONSC-POWERMITE-2-457-04_D_V (POWERMITE, 2-Leads, Body 1.965x1.9mm)
pins: 1 K, 2 A

## MBRM110ET3
designator D?
Schottky Power Rectifier, 2-Pin Powermite, Tape and Reel; Manufacturer: On Semiconductor; PartNumber: MBRM110ET3; Configuration: Single; IFSM Max (A): 50; DatasheetVersion: Rev. 3; PackageVersion: Rev. F, 05/2013; PackageReference: POWERMITE-2-457-04; PackageDescription: 2-Pin POWERMITE, Body 1.965 x 1.9 mm; Supplier 1: Digi-Key; Supplier Part Number 1: MBRM110ET3-ND; Packing: Tape and Reel; RoHS: FALSE; Mounting Technology: Surface Mount; ComponentLink1Description: Manufacturer URL; ComponentLink1URL: http://www.onsemi.com/; ComponentLink2Description: Datasheet; ComponentLink2URL: http://www.onsemi.cn/pub_link/Collateral/MBRM110E-D.PDF; ComponentLink3Description: Package Specification; ComponentLink3URL: http://www.onsemi.com/pub_link/Collateral/457-04.PDF
footprint ONSC-POWERMITE-2-457-04_D_V (POWERMITE, 2-Leads, Body 1.965x1.9mm)
pins: 1 K, 2 A

## MBRM110ET3G
designator D?
Schottky Power Rectifier, 2-Pin Powermite, Pb-Free, Tape and Reel; Manufacturer: On Semiconductor; PartNumber: MBRM110ET3G; Configuration: Single; IFSM Max (A): 50; DatasheetVersion: Rev. 3; PackageVersion: Rev. F, 05/2013; PackageReference: POWERMITE-2-457-04; PackageDescription: 2-Pin POWERMITE, Body 1.965 x 1.9 mm; Supplier 1: Digi-Key; Supplier Part Number 1: MBRM110ET3G-ND; Supplier 2: Newark; Supplier Part Number 2: 85W2286; Supplier 3: Mouser; Supplier Part Number 3: 863-MBRM110ET3G; Packing: Tape and Reel; RoHS: TRUE; Mounting Technology: Surface Mount; ComponentLink1Description: Manufacturer URL; ComponentLink1URL: http://www.onsemi.com/; ComponentLink2Description: Datasheet; ComponentLink2URL: http://www.onsemi.cn/pub_link/Collateral/MBRM110E-D.PDF; ComponentLink3Description: Package Specification; ComponentLink3URL: http://www.onsemi.com/pub_link/Collateral/457-04.PDF
footprint ONSC-POWERMITE-2-457-04_D_V (POWERMITE, 2-Leads, Body 1.965x1.9mm)
pins: 1 K, 2 A

## MBRM110LT1
designator D?
Schottky Power Rectifier, 2-Pin Powermite, Tape and Reel; Manufacturer: On Semiconductor; PartNumber: MBRM110LT1; Configuration: Single; IFSM Max (A): 50; DatasheetVersion: Rev. 2; PackageVersion: Rev. F, 05/2013; PackageReference: POWERMITE-2-457-04; PackageDescription: 2-Pin POWERMITE, Body 1.965 x 1.9 mm; Supplier 1: Digi-Key; Supplier Part Number 1: MBRM110LT1OSTR-ND; Supplier 2: Digi-Key; Supplier Part Number 2: MBRM110LT1OSCT-ND; Supplier 3: Digi-Key; Supplier Part Number 3: MBRM110LT1OSDKR-ND; Packing: Tape and Reel; RoHS: FALSE; Mounting Technology: Surface Mount; ComponentLink1Description: Manufacturer URL; ComponentLink1URL: http://www.onsemi.com/; ComponentLink2Description: Datasheet; ComponentLink2URL: http://www.onsemi.cn/pub_link/Collateral/MBRM110L-D.PDF; ComponentLink3Description: Package Specification; ComponentLink3URL: http://www.onsemi.com/pub_link/Collateral/457-04.PDF
footprint ONSC-POWERMITE-2-457-04_D_V (POWERMITE, 2-Leads, Body 1.965x1.9mm)
pins: 1 K, 2 A

## MBRM110LT1G
designator D?
Schottky Power Rectifier, 2-Pin Powermite, Pb-Free, Tape and Reel; Manufacturer: On Semiconductor; PartNumber: MBRM110LT1G; Configuration: Single; IFSM Max (A): 50; DatasheetVersion: Rev. 2; PackageVersion: Rev. F, 05/2013; PackageReference: POWERMITE-2-457-04; PackageDescription: 2-Pin POWERMITE, Body 1.965 x 1.9 mm; Supplier 1: Digi-Key; Supplier Part Number 1: MBRM110LT1GOSTR-ND; Supplier 2: Digi-Key; Supplier Part Number 2: MBRM110LT1GOSCT-ND; Supplier 3: Digi-Key; Supplier Part Number 3: MBRM110LT1GOSDKR-ND; Supplier 4: Farnell; Supplier Part Number 4: 1651127; Supplier 5: Farnell; Supplier Part Number 5: 1651127RL; Supplier 6: Newark; Supplier Part Number 6: 26K3688; Supplier 7: Mouser; Supplier Part Number 7: 863-MBRM110LT1G; Packing: Tape and Reel; RoHS: TRUE; Mounting Technology: Surface Mount; ComponentLink1Description: Manufacturer URL; ComponentLink1URL: http://www.onsemi.com/; ComponentLink2Description: Datasheet; ComponentLink2URL: http://www.onsemi.cn/pub_link/Collateral/MBRM110L-D.PDF; ComponentLink3Description: Package Specification; ComponentLink3URL: http://www.onsemi.com/pub_link/Collateral/457-04.PDF
footprint ONSC-POWERMITE-2-457-04_D_V (POWERMITE, 2-Leads, Body 1.965x1.9mm)
pins: 1 K, 2 A

## MBRM110LT3
designator D?
Schottky Power Rectifier, 2-Pin Powermite, Tape and Reel; Manufacturer: On Semiconductor; PartNumber: MBRM110LT3; Configuration: Single; IFSM Max (A): 50; DatasheetVersion: Rev. 2; PackageVersion: Rev. F, 05/2013; PackageReference: POWERMITE-2-457-04; PackageDescription: 2-Pin POWERMITE, Body 1.965 x 1.9 mm; Supplier 1: Digi-Key; Supplier Part Number 1: MBRM110LT3-ND; Packing: Tape and Reel; RoHS: FALSE; Mounting Technology: Surface Mount; ComponentLink1Description: Manufacturer URL; ComponentLink1URL: http://www.onsemi.com/; ComponentLink2Description: Datasheet; ComponentLink2URL: http://www.onsemi.cn/pub_link/Collateral/MBRM110L-D.PDF; ComponentLink3Description: Package Specification; ComponentLink3URL: http://www.onsemi.com/pub_link/Collateral/457-04.PDF
footprint ONSC-POWERMITE-2-457-04_D_V (POWERMITE, 2-Leads, Body 1.965x1.9mm)
pins: 1 K, 2 A

## MBRM110LT3G
designator D?
Schottky Power Rectifier, 2-Pin Powermite, Pb-Free, Tape and Reel; Manufacturer: On Semiconductor; PartNumber: MBRM110LT3G; Configuration: Single; IFSM Max (A): 50; DatasheetVersion: Rev. 2; PackageVersion: Rev. F, 05/2013; PackageReference: POWERMITE-2-457-04; PackageDescription: 2-Pin POWERMITE, Body 1.965 x 1.9 mm; Supplier 1: Digi-Key; Supplier Part Number 1: MBRM110LT3GOSTR-ND; Supplier 2: Digi-Key; Supplier Part Number 2: MBRM110LT3GOSCT-ND; Supplier 3: Digi-Key; Supplier Part Number 3: MBRM110LT3GOSDKR-ND; Supplier 4: Farnell; Supplier Part Number 4: 1459062; Supplier 5: Farnell; Supplier Part Number 5: 1459062RL; Supplier 6: Newark; Supplier Part Number 6: 41K9981; Supplier 7: Mouser; Supplier Part Number 7: 863-MBRM110LT3G; Packing: Tape and Reel; RoHS: TRUE; Mounting Technology: Surface Mount; ComponentLink1Description: Manufacturer URL; ComponentLink1URL: http://www.onsemi.com/; ComponentLink2Description: Datasheet; ComponentLink2URL: http://www.onsemi.cn/pub_link/Collateral/MBRM110L-D.PDF; ComponentLink3Description: Package Specification; ComponentLink3URL: http://www.onsemi.com/pub_link/Collateral/457-04.PDF
footprint ONSC-POWERMITE-2-457-04_D_V (POWERMITE, 2-Leads, Body 1.965x1.9mm)
pins: 1 K, 2 A

## MBRM120ET1
designator D?
Schottky Power Rectifier, 2-Pin Powermite, Tape and Reel; Manufacturer: On Semiconductor; PartNumber: MBRM120ET1; Configuration: Single; IFSM Max (A): 50; DatasheetVersion: Rev. 3; PackageVersion: Rev. F, 05/2013; PackageReference: POWERMITE-2-457-04; PackageDescription: 2-Pin POWERMITE, Body 1.965 x 1.9 mm; Supplier 1: Digi-Key; Supplier Part Number 1: MBRM120ET1-ND; Packing: Tape and Reel; RoHS: FALSE; Mounting Technology: Surface Mount; ComponentLink1Description: Manufacturer URL; ComponentLink1URL: http://www.onsemi.com/; ComponentLink2Description: Datasheet; ComponentLink2URL: http://www.onsemi.cn/pub_link/Collateral/MBRM120E-D.PDF; ComponentLink3Description: Package Specification; ComponentLink3URL: http://www.onsemi.com/pub_link/Collateral/457-04.PDF
footprint ONSC-POWERMITE-2-457-04_D_V (POWERMITE, 2-Leads, Body 1.965x1.9mm)
pins: 1 K, 2 A

## MBRM120ET1G
designator D?
Schottky Power Rectifier, 2-Pin Powermite, Pb-Free, Tape and Reel; Manufacturer: On Semiconductor; PartNumber: MBRM120ET1G; Configuration: Single; IFSM Max (A): 50; DatasheetVersion: Rev. 3; PackageVersion: Rev. F, 05/2013; PackageReference: POWERMITE-2-457-04; PackageDescription: 2-Pin POWERMITE, Body 1.965 x 1.9 mm; Supplier 1: Digi-Key; Supplier Part Number 1: MBRM120ET1GOSTR-ND; Supplier 2: Digi-Key; Supplier Part Number 2: MBRM120ET1GOSCT-ND; Supplier 3: Digi-Key; Supplier Part Number 3: MBRM120ET1GOSDKR-ND; Supplier 4: Farnell; Supplier Part Number 4: 2317435; Supplier 5: Farnell; Supplier Part Number 5: 1900103; Supplier 6: Newark; Supplier Part Number 6: 10N9418; Supplier 7: Newark; Supplier Part Number 7: 98H0592; Supplier 8: Mouser; Supplier Part Number 8: 863-MBRM120ET1G; Packing: Tape and Reel; RoHS: TRUE; Mounting Technology: Surface Mount; ComponentLink1Description: Manufacturer URL; ComponentLink1URL: http://www.onsemi.com/; ComponentLink2Description: Datasheet; ComponentLink2URL: http://www.onsemi.cn/pub_link/Collateral/MBRM120E-D.PDF; ComponentLink3Description: Package Specification; ComponentLink3URL: http://www.onsemi.com/pub_link/Collateral/457-04.PDF
footprint ONSC-POWERMITE-2-457-04_D_V (POWERMITE, 2-Leads, Body 1.965x1.9mm)
pins: 1 K, 2 A

## MBRM120ET3
designator D?
Schottky Power Rectifier, 2-Pin Powermite, Tape and Reel; Manufacturer: On Semiconductor; PartNumber: MBRM120ET3; Configuration: Single; IFSM Max (A): 50; DatasheetVersion: Rev. 3; PackageVersion: Rev. F, 05/2013; PackageReference: POWERMITE-2-457-04; PackageDescription: 2-Pin POWERMITE, Body 1.965 x 1.9 mm; Supplier 1: Digi-Key; Supplier Part Number 1: MBRM120ET3OSTR-ND; Supplier 2: Digi-Key; Supplier Part Number 2: MBRM120ET3OSCT-ND; Supplier 3: Digi-Key; Supplier Part Number 3: MBRM120ET3OSDKR-ND; Packing: Tape and Reel; RoHS: FALSE; Mounting Technology: Surface Mount; ComponentLink1Description: Manufacturer URL; ComponentLink1URL: http://www.onsemi.com/; ComponentLink2Description: Datasheet; ComponentLink2URL: http://www.onsemi.cn/pub_link/Collateral/MBRM120E-D.PDF; ComponentLink3Description: Package Specification; ComponentLink3URL: http://www.onsemi.com/pub_link/Collateral/457-04.PDF
footprint ONSC-POWERMITE-2-457-04_D_V (POWERMITE, 2-Leads, Body 1.965x1.9mm)
pins: 1 K, 2 A

## MBRM120ET3G
designator D?
Schottky Power Rectifier, 2-Pin Powermite, Pb-Free, Tape and Reel; Manufacturer: On Semiconductor; PartNumber: MBRM120ET3G; Configuration: Single; IFSM Max (A): 50; DatasheetVersion: Rev. 3; PackageVersion: Rev. F, 05/2013; PackageReference: POWERMITE-2-457-04; PackageDescription: 2-Pin POWERMITE, Body 1.965 x 1.9 mm; Supplier 1: Digi-Key; Supplier Part Number 1: MBRM120ET3GOSTR-ND; Supplier 2: Digi-Key; Supplier Part Number 2: MBRM120ET3GOSCT-ND; Supplier 3: Digi-Key; Supplier Part Number 3: MBRM120ET3GOSDKR-ND; Supplier 4: Farnell; Supplier Part Number 4: 1459063RL; Supplier 5: Farnell; Supplier Part Number 5: 1459063; Supplier 6: Newark; Supplier Part Number 6: 45J0788; Supplier 7: Mouser; Supplier Part Number 7: 863-MBRM120ET3G; Packing: Tape and Reel; RoHS: TRUE; Mounting Technology: Surface Mount; ComponentLink1Description: Manufacturer URL; ComponentLink1URL: http://www.onsemi.com/; ComponentLink2Description: Datasheet; ComponentLink2URL: http://www.onsemi.cn/pub_link/Collateral/MBRM120E-D.PDF; ComponentLink3Description: Package Specification; ComponentLink3URL: http://www.onsemi.com/pub_link/Collateral/457-04.PDF
footprint ONSC-POWERMITE-2-457-04_D_V (POWERMITE, 2-Leads, Body 1.965x1.9mm)
pins: 1 K, 2 A

## MBRM120LT1
designator D?
Schottky Power Rectifier, 2-Pin Powermite, Tape and Reel; Manufacturer: On Semiconductor; PartNumber: MBRM120LT1; Configuration: Single; IFSM Max (A): 50; DatasheetVersion: Rev. 7; PackageVersion: Rev. F, 05/2013; PackageReference: POWERMITE-2-457-04; PackageDescription: 2-Pin POWERMITE, Body 1.965 x 1.9 mm; Supplier 1: Digi-Key; Supplier Part Number 1: MBRM120LT1OSCT-ND; Packing: Tape and Reel; RoHS: FALSE; Mounting Technology: Surface Mount; ComponentLink1Description: Manufacturer URL; ComponentLink1URL: http://www.onsemi.com/; ComponentLink2Description: Datasheet; ComponentLink2URL: http://www.onsemi.cn/pub_link/Collateral/MBRM120L-D.PDF; ComponentLink3Description: Package Specification; ComponentLink3URL: http://www.onsemi.com/pub_link/Collateral/457-04.PDF
footprint ONSC-POWERMITE-2-457-04_D_V (POWERMITE, 2-Leads, Body 1.965x1.9mm)
pins: 1 K, 2 A

## MBRM120LT1G
designator D?
Schottky Power Rectifier, 2-Pin Powermite, Pb-Free, Tape and Reel; Manufacturer: On Semiconductor; PartNumber: MBRM120LT1G; Configuration: Single; IFSM Max (A): 50; DatasheetVersion: Rev. 7; PackageVersion: Rev. F, 05/2013; PackageReference: POWERMITE-2-457-04; PackageDescription: 2-Pin POWERMITE, Body 1.965 x 1.9 mm; Supplier 1: Digi-Key; Supplier Part Number 1: MBRM120LT1GOSTR-ND; Supplier 2: Digi-Key; Supplier Part Number 2: MBRM120LT1GOSCT-ND; Supplier 3: Digi-Key; Supplier Part Number 3: MBRM120LT1GOSDKR-ND; Supplier 4: Farnell; Supplier Part Number 4: 9555994RL; Supplier 5: Farnell; Supplier Part Number 5: 2317664; Supplier 6: Mouser; Supplier Part Number 6: 863-MBRM120LT1G; Packing: Tape and Reel; RoHS: TRUE; Mounting Technology: Surface Mount; ComponentLink1Description: Manufacturer URL; ComponentLink1URL: http://www.onsemi.com/; ComponentLink2Description: Datasheet; ComponentLink2URL: http://www.onsemi.cn/pub_link/Collateral/MBRM120L-D.PDF; ComponentLink3Description: Package Specification; ComponentLink3URL: http://www.onsemi.com/pub_link/Collateral/457-04.PDF
footprint ONSC-POWERMITE-2-457-04_D_V (POWERMITE, 2-Leads, Body 1.965x1.9mm)
pins: 1 K, 2 A

## MBRM120LT3
designator D?
Schottky Power Rectifier, 2-Pin Powermite, Tape and Reel; Manufacturer: On Semiconductor; PartNumber: MBRM120LT3; Note: 0; Configuration: Single; IFSM Max (A): 50; DatasheetVersion: Rev. 7; PackageVersion: Rev. F, 05/2013; PackageReference: POWERMITE-2-457-04; PackageDescription: 2-Pin POWERMITE, Body 1.965 x 1.9 mm; Packing: Tape and Reel; RoHS: FALSE; Mounting Technology: Surface Mount; ComponentLink1Description: Manufacturer URL; ComponentLink1URL: http://www.onsemi.com/; ComponentLink2Description: Datasheet; ComponentLink2URL: http://www.onsemi.cn/pub_link/Collateral/MBRM120L-D.PDF; ComponentLink3Description: Package Specification; ComponentLink3URL: http://www.onsemi.com/pub_link/Collateral/457-04.PDF
footprint ONSC-POWERMITE-2-457-04_D_V (POWERMITE, 2-Leads, Body 1.965x1.9mm)
pins: 1 K, 2 A